# EAGLE library part 74HCT4514N (library 8BitCpuParts)
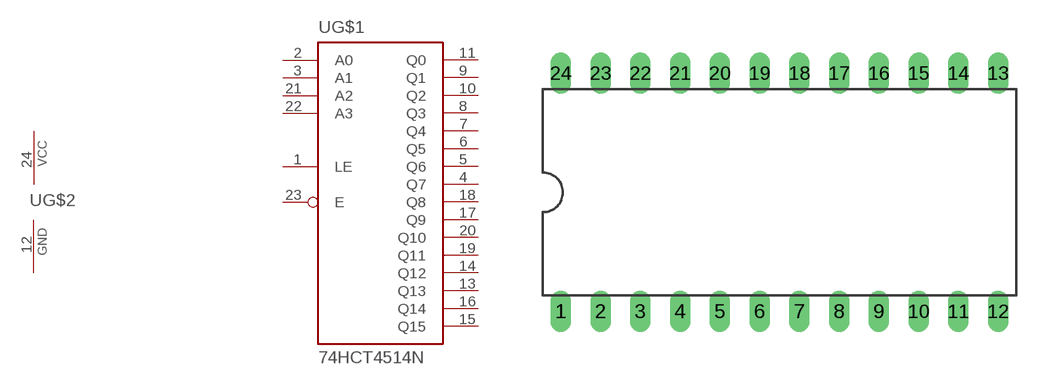
[diagram p5: symbol with the pads of DIL24-6; footprint DIL24-6]

Designator prefix -; gates G$1=744514 G$2=PWRN

## 74HCT4514N  [DIL24-6]
1  G$1:LE
2  G$1:A0
3  G$1:A1
4  G$1:Q7
5  G$1:Q6
6  G$1:Q5
7  G$1:Q4
8  G$1:Q3
9  G$1:Q1
10  G$1:Q2
11  G$1:Q0
12  G$2:GND  pwr
13  G$1:Q13
14  G$1:Q12
15  G$1:Q15
16  G$1:Q14
17  G$1:Q9
18  G$1:Q8
19  G$1:Q11
20  G$1:Q10
21  G$1:A2
22  G$1:A3
23  G$1:E
24  G$2:VCC  pwr

## Footprint DIL24-6 (pad centres in mm)
Dual In Line Package 0.6 inch
drill 0.813 long: 1 -13.97,-7.62; 2 -11.43,-7.62; 3 -8.89,-7.62; 4 -6.35,-7.62; 5 -3.81,-7.62; 6 -1.27,-7.62; 7 1.27,-7.62; 8 3.81,-7.62; 9 6.35,-7.62; 10 8.89,-7.62; 11 11.43,-7.62; 12 13.97,-7.62; 13 13.97,7.62; 14 11.43,7.62; 15 8.89,7.62; 16 6.35,7.62; 17 3.81,7.62; 18 1.27,7.62; 19 -1.27,7.62; 20 -3.81,7.62; 21 -6.35,7.62; 22 -8.89,7.62; 23 -11.43,7.62; 24 -13.97,7.62